# Altium schematic symbol library Connector-IDC.SchLib: 13 symbols
Pins are listed as number, name and electrical type; pins without a type are passive.

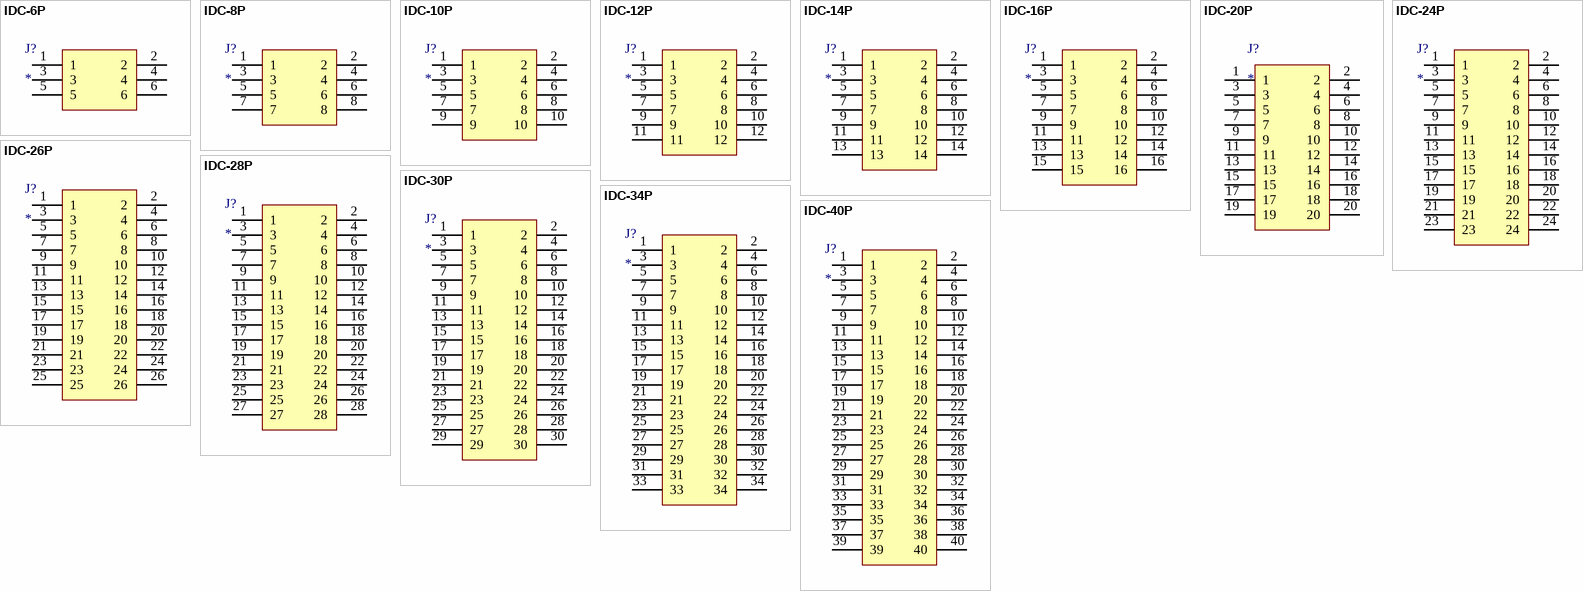
[diagram p0: symbols IDC-6P to IDC-40P]

## IDC-6P
designator J?
Manufacturer_Name: *; Manufacturer_Part_Number: *
footprint IDC2.54-6P
footprint IDC1.27-6P-S-SMD (HX JN1.27-2x3 TP H4.9)
pins: 1, 2, 3, 4, 5, 6

## IDC-8P
designator J?
Manufacturer_Name: *; Manufacturer_Part_Number: *
footprint IDC2.54-8P (8P简易牛角座)
pins: 1, 2, 3, 4, 5, 6, 7, 8

## IDC-10P
designator J?
Manufacturer_Name: *; Manufacturer_Part_Number: *
footprint IDC2.54-10P
footprint IDC-10PD
footprint IDC1.27-10P-S-SMD (HX JN1.27-2x5 TP H4.9)
pins: 1, 2, 3, 4, 5, 6, 7, 8, 9, 10

## IDC-12P
designator J?
Manufacturer_Name: *; Manufacturer_Part_Number: *
footprint IDC2.54-12P (12P简易牛角座)
footprint IDC2.54-12P-RA (12P简易牛角座 弯脚)
pins: 1, 2, 3, 4, 5, 6, 7, 8, 9, 10, 11, 12

## IDC-14P
designator J?
Manufacturer_Name: *; Manufacturer_Part_Number: *
footprint IDC2.54-14P
footprint IDC-14PD
pins: 1, 2, 3, 4, 5, 6, 7, 8, 9, 10, 11, 12, 13, 14

## IDC-16P
designator J?
Manufacturer_Name: *; Manufacturer_Part_Number: *
footprint IDC2.54-16P
footprint IDC-16PD
pins: 1, 2, 3, 4, 5, 6, 7, 8, 9, 10, 11, 12, 13, 14, 15, 16

## IDC-20P
designator J?
footprint IDC2.54-20P
footprint IDC-20PD
pins: 1, 2, 3, 4, 5, 6, 7, 8, 9, 10, 11, 12, 13, 14, 15, 16, 17, 18, 19, 20

## IDC-24P
designator J?
footprint IDC2.54-24P
footprint IDC-24PD
pins: 1, 2, 3, 4, 5, 6, 7, 8, 9, 10, 11, 12, 13, 14, 15, 16, 17, 18, 19, 20, 21, 22, 23, 24

## IDC-26P
designator J?
footprint IDC2.54-26P
footprint IDC-26PD
pins: 1, 2, 3, 4, 5, 6, 7, 8, 9, 10, 11, 12, 13, 14, 15, 16, 17, 18, 19, 20, 21, 22, 23, 24, 25, 26

## IDC-28P
designator J?
footprint IDC-28PD
pins: 1, 2, 3, 4, 5, 6, 7, 8, 9, 10, 11, 12, 13, 14, 15, 16, 17, 18, 19, 20, 21, 22, 23, 24, 25, 26, 27, 28

## IDC-30P
designator J?
footprint IDC-30PD
footprint IDC2.54-30P
pins: 1, 2, 3, 4, 5, 6, 7, 8, 9, 10, 11, 12, 13, 14, 15, 16, 17, 18, 19, 20, 21, 22, 23, 24, 25, 26, 27, 28, 29, 30

## IDC-34P
designator J?
footprint IDC2.54-34P
footprint IDC-34PD
pins: 1, 2, 3, 4, 5, 6, 7, 8, 9, 10, 11, 12, 13, 14, 15, 16, 17, 18, 19, 20, 21, 22, 23, 24, 25, 26, 27, 28, 29, 30, 31, 32, 33, 34

## IDC-40P
designator J?
footprint IDC2.54-40P
footprint IDC-40PD
pins: 1, 2, 3, 4, 5, 6, 7, 8, 9, 10, 11, 12, 13, 14, 15, 16, 17, 18, 19, 20, 21, 22, 23, 24, 25, 26, 27, 28, 29, 30, 31, 32, 33, 34, 35, 36, 37, 38, 39, 40